# EAGLE library part 691221320006 (library Terminal_Blocks_Connectors_rev15e)
WR-TBL Serie 2213 - 3.81mm 45° Entry Modular with Rising Cage Clamp - 1.3mm2 Wires, 6 Pins=>Code : Con_TBL_Screw_RisingClamp_3.81_691221320006 <http://katalog.we-online.de/media/images/eican/Con_TBL_Screw_RisingClamp_3.81_6912213200xx_pf2.jpg> Details see: http://katalog.we-online.de/en/em/691_221_320_0xx Created 2014-06-18, Karrer Zheng 2014 (C) Würth Elektronik
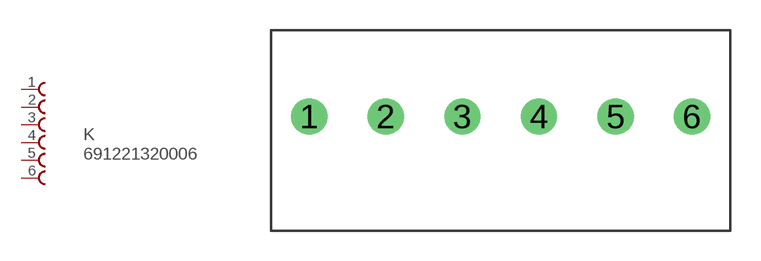
[diagram p8: symbol with the pads of 691221320006; footprint 691221320006]

Designator prefix K

## 691221320006  [691221320006]
1  1  pas
2  2  pas
3  3  pas
4  4  pas
5  5  pas
6  6  pas

## Footprint 691221320006 (pad centres in mm)
WR-TBL Serie 2213 - 3.81mm 45° Entry Modular with Rising Cage Clamp - 1.3mm2 Wires, 6 Pins
drill 1.2: 1 -3.81,0; 2 0,0; 3 3.81,0; 4 7.62,0; 5 11.43,0; 6 15.24,0